# Altium footprint library GNL-5012.PcbLib: 1 footprints
Each footprint in its own frame and in the unit in brackets; x right, y up, seen from the top. Pads: shape width x height; smd on the part's side, far side on the other; paste and mask are expansions set on the pad; w line width, h text height; cw(c..) or ccw(c..) is an arc to the next point about the centre after c.
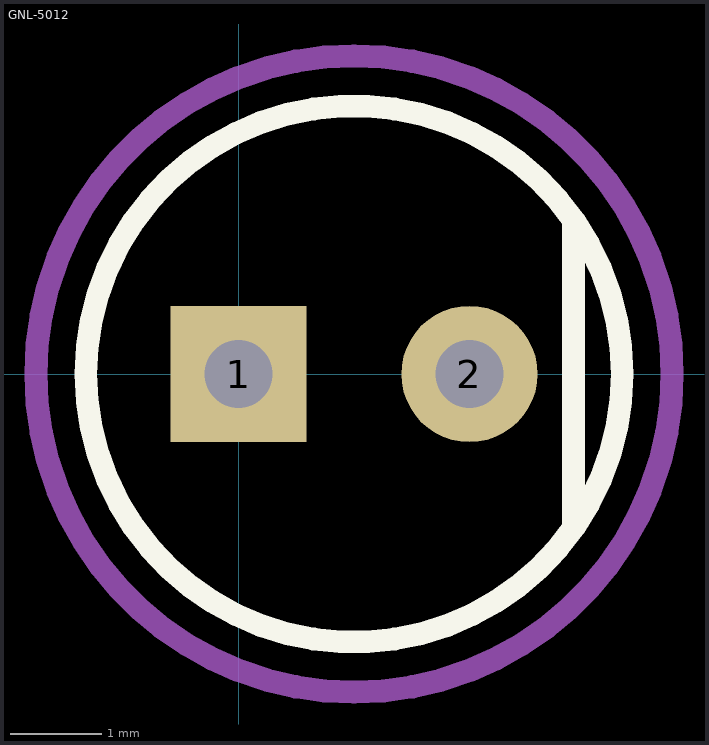
[diagram p0: the footprint, top view; thin cyan lines are the x and y axes]

## GNL-5012 [mm]
pads (2):
  rect 1.5x1.5 hole 0.75: 1(0,0)
  round 1.5 hole 0.75: 2(2.54,0)
Top Overlay:
  circle w0.25: c1.27,0 r2.95
  lines w0.254: 3.683,-1.651 3.683,1.651
Mechanical 15:
  circle w0.254: c1.27,0 r3.5
3D body "led_5mm_red.STEP": height 9, standoff -5, extent -1.73,-3 3.77,3